# Altium footprint library GRM155R71C104KA88D.PcbLib: 3 footprints
Each footprint in its own frame and in the unit in brackets; x right, y up, seen from the top. Pads: shape width x height; smd on the part's side, far side on the other; paste and mask are expansions set on the pad; w line width, h text height; cw(c..) or ccw(c..) is an arc to the next point about the centre after c.
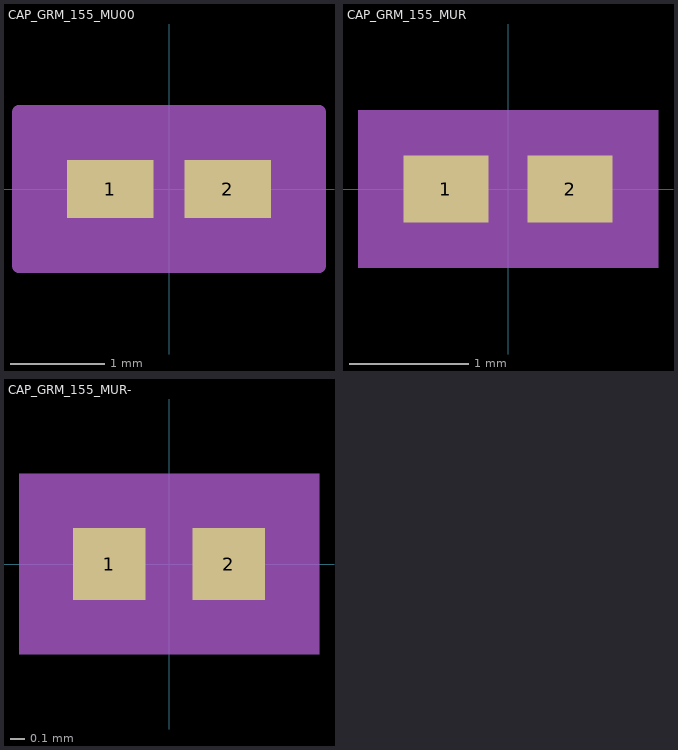
[diagram p0: the footprints below, top view; thin cyan lines are the x and y axes]

## CAP_GRM_155_MU00 [mil]
pads (2):
  rect 36x24 smd paste+0 mask+0: 1(-24.5,0) 2(24.5,0)
Mechanical 5:
  region: 57.5,-27 -57.5,-27 -57.5,27 57.5,27
Mechanical 13:
  lines w1: -20.5,-11 -20.5,11 ; -20.5,-11 -6.5,-11 -6.5,11 -20.5,11 ; -20.5,-11 20.5,-11 ; -20.5,-11 -20.5,11 ; -20.5,11 20.5,11 ; 20.5,-11 6.5,-11 6.5,11 20.5,11 ; 20.5,-11 20.5,11 ; 20.5,-11 20.5,11
Mechanical 15:
  region: 62.5,-32 -62.5,-32 -62.5,32 62.5,32
  lines w6: -62.5,-32 -62.5,32 62.5,32 62.5,-32 -62.5,-32
3D body: height 10, standoff 0, extent -20,-10 20,10

## CAP_GRM_155_MUR [mil]
pads (2):
  rect 28x22 smd paste+0 mask+0: 1(-20.5,0) 2(20.5,0)
Mechanical 5:
  region: 49.5,-26 -49.5,-26 -49.5,26 49.5,26
Mechanical 13:
  lines w1: -20.5,-11 -20.5,11 ; -20.5,-11 -6.5,-11 -6.5,11 -20.5,11 ; -20.5,-11 20.5,-11 ; -20.5,-11 -20.5,11 ; -20.5,11 20.5,11 ; 20.5,-11 6.5,-11 6.5,11 20.5,11 ; 20.5,-11 20.5,11 ; 20.5,-11 20.5,11
Mechanical 15:
  region: 44.5,-21 -44.5,-21 -44.5,21 44.5,21
  lines w6: -44.5,-21 -44.5,21 44.5,21 44.5,-21 -44.5,-21
3D body: height 10, standoff 0, extent -20,-10 20,10

## CAP_GRM_155_MUR- [mil]
pads (2):
  rect 20x20 smd paste+0 mask+0: 1(-16.5,0) 2(16.5,0)
Mechanical 5:
  region: 41.5,-25 -41.5,-25 -41.5,25 41.5,25
Mechanical 13:
  lines w1: -20.5,-11 -20.5,11 ; -20.5,-11 20.5,-11 ; -20.5,-11 -6.5,-11 -6.5,11 -20.5,11 ; -20.5,-11 -20.5,11 ; -20.5,11 20.5,11 ; 20.5,-11 20.5,11 ; 20.5,-11 20.5,11 ; 20.5,-11 6.5,-11 6.5,11 20.5,11
Mechanical 15:
  region: 30.5,-14 -30.5,-14 -30.5,14 30.5,14
  lines w6: -30.5,-14 30.5,-14 30.5,14 -30.5,14 -30.5,-14
3D body: height 10, standoff 0, extent -20,-10 20,10